# Altium footprint library 驱动7971.PcbLib: 6 footprints
Each footprint in its own frame and in the unit in brackets; x right, y up, seen from the top. Pads: shape width x height; smd on the part's side, far side on the other; paste and mask are expansions set on the pad; w line width, h text height; cw(c..) or ccw(c..) is an arc to the next point about the centre after c.
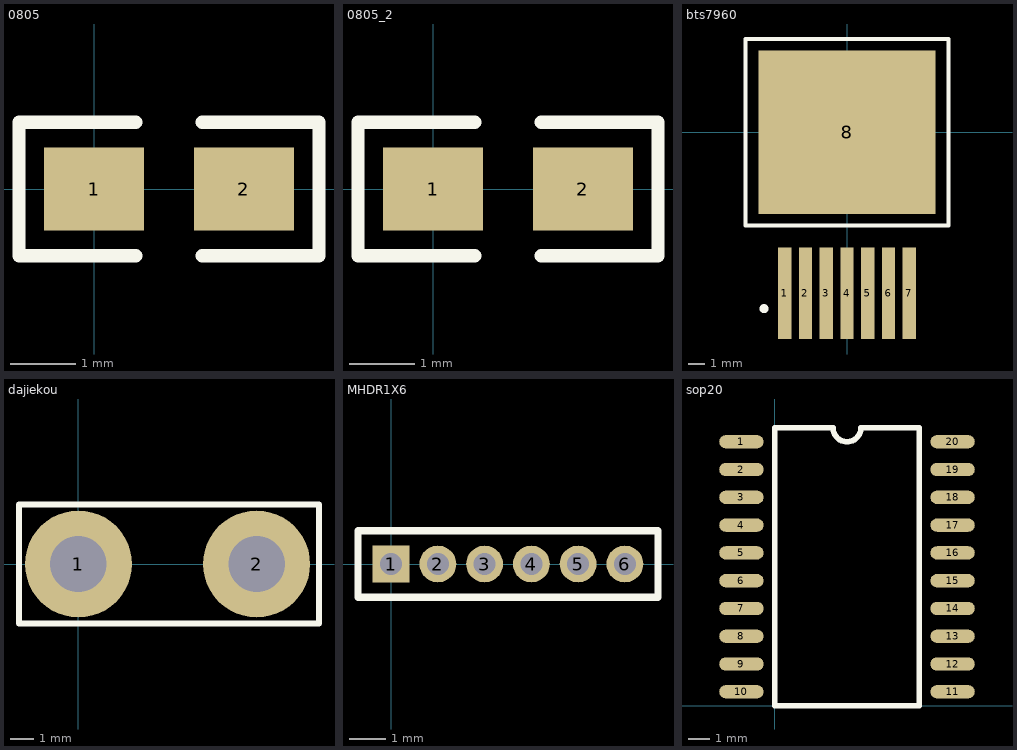
[diagram p0: the footprints below, top view; thin cyan lines are the x and y axes]

## 0805 [mil]
pads (2):
  rect 60x50 smd: 1(0,0) 2(90,0)
Top Overlay:
  lines w8: 25,-40 -45,-40 -45,40 25,40 ; 65,-40 135,-40 135,40 65,40

## 0805_2 [mil]
pads (2):
  rect 60x50 smd: 1(0,0) 2(90,0)
Top Overlay:
  lines w8: 25,-40 -45,-40 -45,40 25,40 ; 65,-40 135,-40 135,40 65,40

## bts7960 [mm]
height 2.65
pads (8):
  rect 0.8x5.6 smd: 1(-3.81,-9.85) 2(-2.54,-9.85) 3(-1.27,-9.85) 4(0,-9.85) 5(1.27,-9.85) 6(2.54,-9.85) 7(3.81,-9.85)
  rect 10.8x10 smd: 8(0,0)
Top Overlay:
  circle w0.3: c-5.08,-10.795 r0.127
  lines w0.254: -6.2,-5.7 -6.2,5.7 6.2,5.7 6.2,-5.7 -6.2,-5.7

## dajiekou [mil]
pads (2):
  round 180 hole 95: 1(0,0) 2(300,0)
Top Overlay:
  lines w10: -100,-100 -100,100 405,100 405,-100 -100,-100

## MHDR1X6 [mm] "Connector; Header; 6 Positio"
pads (6):
  rect 1x1 hole 0.6: 1(0,0)
  round 1 hole 0.6: 2(1.27,0) 3(2.54,0) 4(3.81,0) 5(5.08,0) 6(6.35,0)
Top Overlay:
  lines w0.2: -0.9,-0.9 7.25,-0.9 7.25,0.9 -0.9,0.9 -0.9,-0.9

## sop20 [mil]
pads (20):
  oval 80x24 smd: 1(-60,475) 2(-60,425) 3(-60,375) 4(-60,325) 5(-60,275) 6(-60,225) 7(-60,175) 8(-60,125) 9(-60,75) 10(-60,25) 11(320,25) 12(320,75) 13(320,125) 14(320,175) 15(320,225) 16(320,275) 17(320,325) 18(320,375) 19(320,425) 20(320,475)
Top Overlay:
  lines w10: 0,0 0,500 105,500 ccw(c130,500) 155,500 260,500 260,0 0,0